# Altium schematic symbol library A4989.Schlib: 1 symbol
Pins are listed as number, name and electrical type; pins without a type are passive.

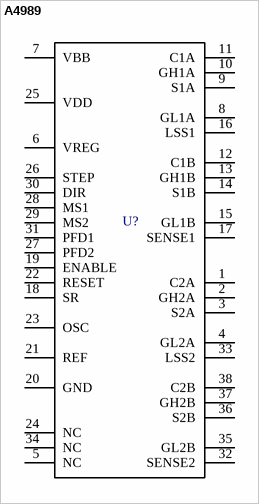
[diagram p0: symbol A4989]

## A4989
designator U?  (value not drawn)
Stepper Driver, A4989
pins: 1 C2A, 2 GH2A, 3 S2A, 4 GL2A, 5 NC, 6 VREG, 7 VBB, 8 GL1A, 9 S1A, 10 GH1A, 11 C1A, 12 C1B, 13 GH1B, 14 S1B, 15 GL1B, 16 LSS1, 17 SENSE1, 18 SR, 19 ENABLE, 20 GND, 21 REF, 22 RESET, 23 OSC, 24 NC, 25 VDD, 26 STEP, 27 PFD2, 28 MS1, 29 MS2, 30 DIR, 31 PFD1, 32 SENSE2, 33 LSS2, 34 NC, 35 GL2B, 36 S2B, 37 GH2B, 38 C2B